# Altium schematic symbol library Conectors.SchLib: 124 symbols
Pins are listed as number, name and electrical type; pins without a type are passive.

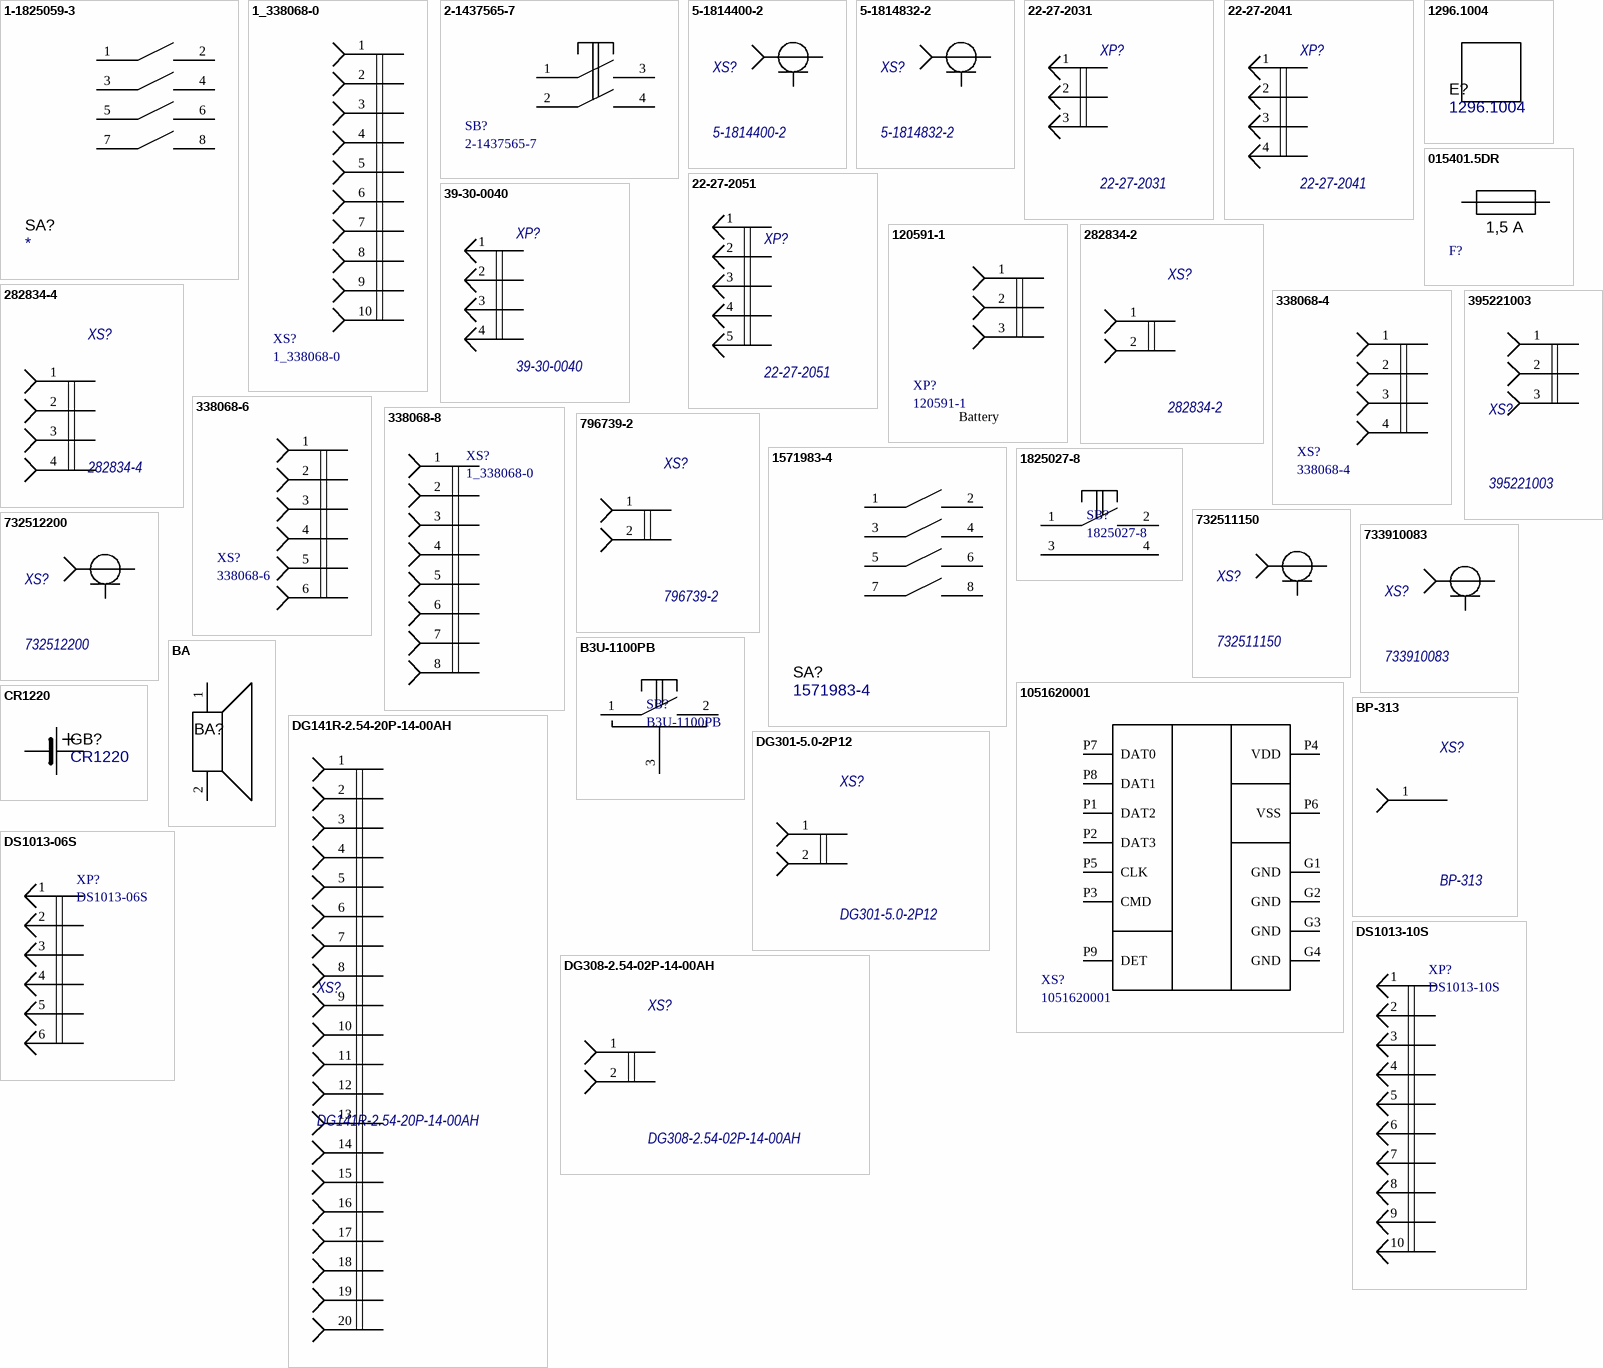
[diagram p0: symbols 1-1825059-3 to DS1013-10S]

## 1-1825059-3
designator SA?
SA; Part Number: 1-1825059-3; Manufacturer: TE Connectivity; Type: SA
footprint 1-1825059-3
pins: 1, 2, 3, 4, 5, 6, 7, 8

## 1_338068-0
designator XS?
Micro-MaTch; Through Hole - Solder; 10p; Manufacturer: TE Connectivity; Part Number: 1_338068-0; Type: Micro-MaTch
footprint 1_338068-0
pins: 1, 2, 3, 4, 5, 6, 7, 8, 9, 10

## 2-1437565-7
designator SB?
SB; Manufacturer: TE Connectivity; Part Number: 2-1437565-7; Type: SB
footprint SW4_FSM-4P44_TEC
pins: 1, 2, 3, 4

## 5-1814400-2
designator XS?
SMA; Manufacturer: TE Connectivity; Part Number: 5-1814400-2; ComponentLink1Description: Datasheet; Type: SMA
footprint 5-1814400-2
pins: 1, 2

## 5-1814832-2
designator XS?
SMA; Manufacturer: TE Connectivity; Part Number: 5-1814832-2; ComponentLink1Description: Datasheet; Type: SMA
footprint 5-1814832-2
pins: 1, 2

## 22-27-2031
designator XP?
Manufacturer: MOLEX; Part Number: 22-27-2031; Type: -; ComponentLink1Description: Datasheet
footprint 22-27-2031
pins: 1, 2, 3

## 22-27-2041
designator XP?
Manufacturer: MOLEX; Part Number: 22-27-2041; Type: -; ComponentLink1Description: Datasheet
footprint 22-27-2051
pins: 1, 2, 3, 4

## 22-27-2051
designator XP?
Manufacturer: MOLEX; Part Number: 22-27-2051; Type: -; ComponentLink1Description: Datasheet
footprint 22-27-2051
pins: 1, 2, 3, 4, 5

## 39-30-0040
designator XP?
Manufacturer: MOLEX; Part Number: 39-30-0040; Type: Mini-Fit; ComponentLink1Description: Datasheet
footprint 39-30-0040
pins: 1, 2, 3, 4

## 1296.1004
designator E?
Light Guides, 4 LED; Manufacturer: Mentor; Part Number: 1296.1004; Type: Light Guides
footprint 1296.1004

## 015401.5DR
designator F?  Current: 1,5 А  (hidden comment: 015401.5DR)
Fuse 1,5 А; Manufacturer: Littelfuse Inc; Part Number: 015401.5DR; Type: Fuse
footprint 0154Series_LTF
pins: 1, 2

## 120591-1
designator XP?
Battery; Manufacturer: TE Connectivity; Part Number: 120591-1; Type: Battery
footprint CONN3_120591-1_TEC
pins: 1, 2, 3

## 282834-2
designator XS?
282834-2, 2,54 мм; Manufacturer: TE; Part Number: 282834-2; Type: Terminal Blocks; ComponentLink1Description: Datasheet
footprint 282834-2
pins: 1, 2

## 282834-4
designator XS?
282834-4, 2,54 мм; Manufacturer: TE; Part Number: 282834-4; Type: Terminal Blocks; ComponentLink1Description: Datasheet
footprint 282834-4
pins: 1, 2, 3, 4

## 338068-4
designator XS?
Micro-MaTch; Through Hole - Solder; 4p; Manufacturer: TE Connectivity; Part Number: 338068-4; Type: Micro-MaTch
footprint 338068-4
pins: 1, 2, 3, 4

## 338068-6
designator XS?
Micro-MaTch; Through Hole - Solder; 6p; Manufacturer: TE Connectivity; Part Number: 338068-6; Type: Micro-MaTch
footprint 338068-6
pins: 1, 2, 3, 4, 5, 6

## 338068-8
designator XS?, comment 1_338068-0
Micro-MaTch; Through Hole - Solder; 8p; Manufacturer: TE Connectivity; Part Number: 338068-8; Type: Micro-MaTch
footprint 338068-8
pins: 1, 2, 3, 4, 5, 6, 7, 8

## 796739-2
designator XS?
Manufacturer: TE Connectivity; Part Number: 796739-2; Type: Terminal Blocks; ComponentLink1Description: Datasheet
footprint 796739-2
pins: 1, 2

## 1571983-4
designator SA?
SA; Manufacturer: TE Connectivity; Part Number: 1571983-4; Type: SA
footprint 1571983-4
pins: 1, 2, 3, 4, 5, 6, 7, 8

## 1825027-8
designator SB?
SB; Manufacturer: TE Connectivity; Part Number: 1825027-8; Type: SB
footprint SW2_1825027-C_TEC
pins: 1, 2, 3, 4

## 395221003
designator XS?
Manufacturer: MOLEX; Part Number: 395221003; Type: Terminal Blocks
footprint 395221003
pins: 1, 2, 3
2 alternate drawings of the same symbol

## 732511150
designator XS?
Manufacturer: MOLEX; Part Number: 732511150; ComponentLink1Description: Datasheet; Type: SMA
footprint 732511150
pins: 1, 2

## 732512200
designator XS?
SMA; Manufacturer: MOLEX; Part Number: 732512200; ComponentLink1Description: Datasheet; Type: SMA
footprint 732512200
pins: 1, 2

## 733910083
designator XS?
Manufacturer: MOLEX; Part Number: 733910083; ComponentLink1Description: Datasheet; Type: SMA
footprint 733910083
pins: 1, 2

## 1051620001
designator XS?
Micro SD; Manufacturer: Molex Connector Corporation; Part Number: 1051620001; Type: Micro SD
footprint 105162-0001_MOL
pins: G1 GND, G2 GND, G3 GND, G4 GND, P1 DAT2, P2 DAT3, P3 CMD, P4 VDD, P5 CLK, P6 VSS, P7 DAT0, P8 DAT1, P9 DET

## B3U-1100PB
designator SB?
SB; Manufacturer: OMRON; Part Number: B3U-1100PB; Type: SB
footprint B3U-1100P
pins: 1, 2, 3

## BA
designator BA?
footprint 3 INCH SPEAKER (Footprint not found)
pins: 1, 2

## BP-313
designator XS?
Part Number: BP-313; Type: BP; ComponentLink1Description: Datasheet; Manufacturer: -
footprint BP-313
pins: 1

## CR1220
designator GB?
footprint CR1220
pins: 1, 2

## DG141R-2.54-20P-14-00AH
designator XS?
Manufacturer: Degson; Part Number: DG141R-2.54-20P-14-00AH; Type: Terminal Blocks; ComponentLink1Description: Datasheet
footprint DG141R-2.54-20P-14-00AH
pins: 1, 2, 3, 4, 5, 6, 7, 8, 9, 10, 11, 12, 13, 14, 15, 16, 17, 18, 19, 20

## DG301-5.0-2P12
designator XS?
Terminal Block, 5мм, 2P; Manufacturer: KLS; Part Number: DG301-5.0-2P12; Type: Terminal Block; ComponentLink1Description: Datasheet
footprint DG301-5.0-2P12
pins: 1, 2

## DG308-2.54-02P-14-00AH
designator XS?
DG308-2.54-02P-14-00AH, 2,54 мм; Part Number: DG308-2.54-02P-14-00AH; Type: Terminal Blocks; ComponentLink1Description: Datasheet; Manufacturer: -
footprint 282834-2
pins: 1, 2

## DS1013-06S
designator XP?
IDC; Manufacturer: Connfly; Part Number: DS1013-06S; Type: IDC
footprint IDC-06MS
pins: 1, 2, 3, 4, 5, 6

## DS1013-10S
designator XP?
IDC; Manufacturer: Connfly; Part Number: DS1013-10S; Type: IDC
footprint IDC-10MS
pins: 1, 2, 3, 4, 5, 6, 7, 8, 9, 10

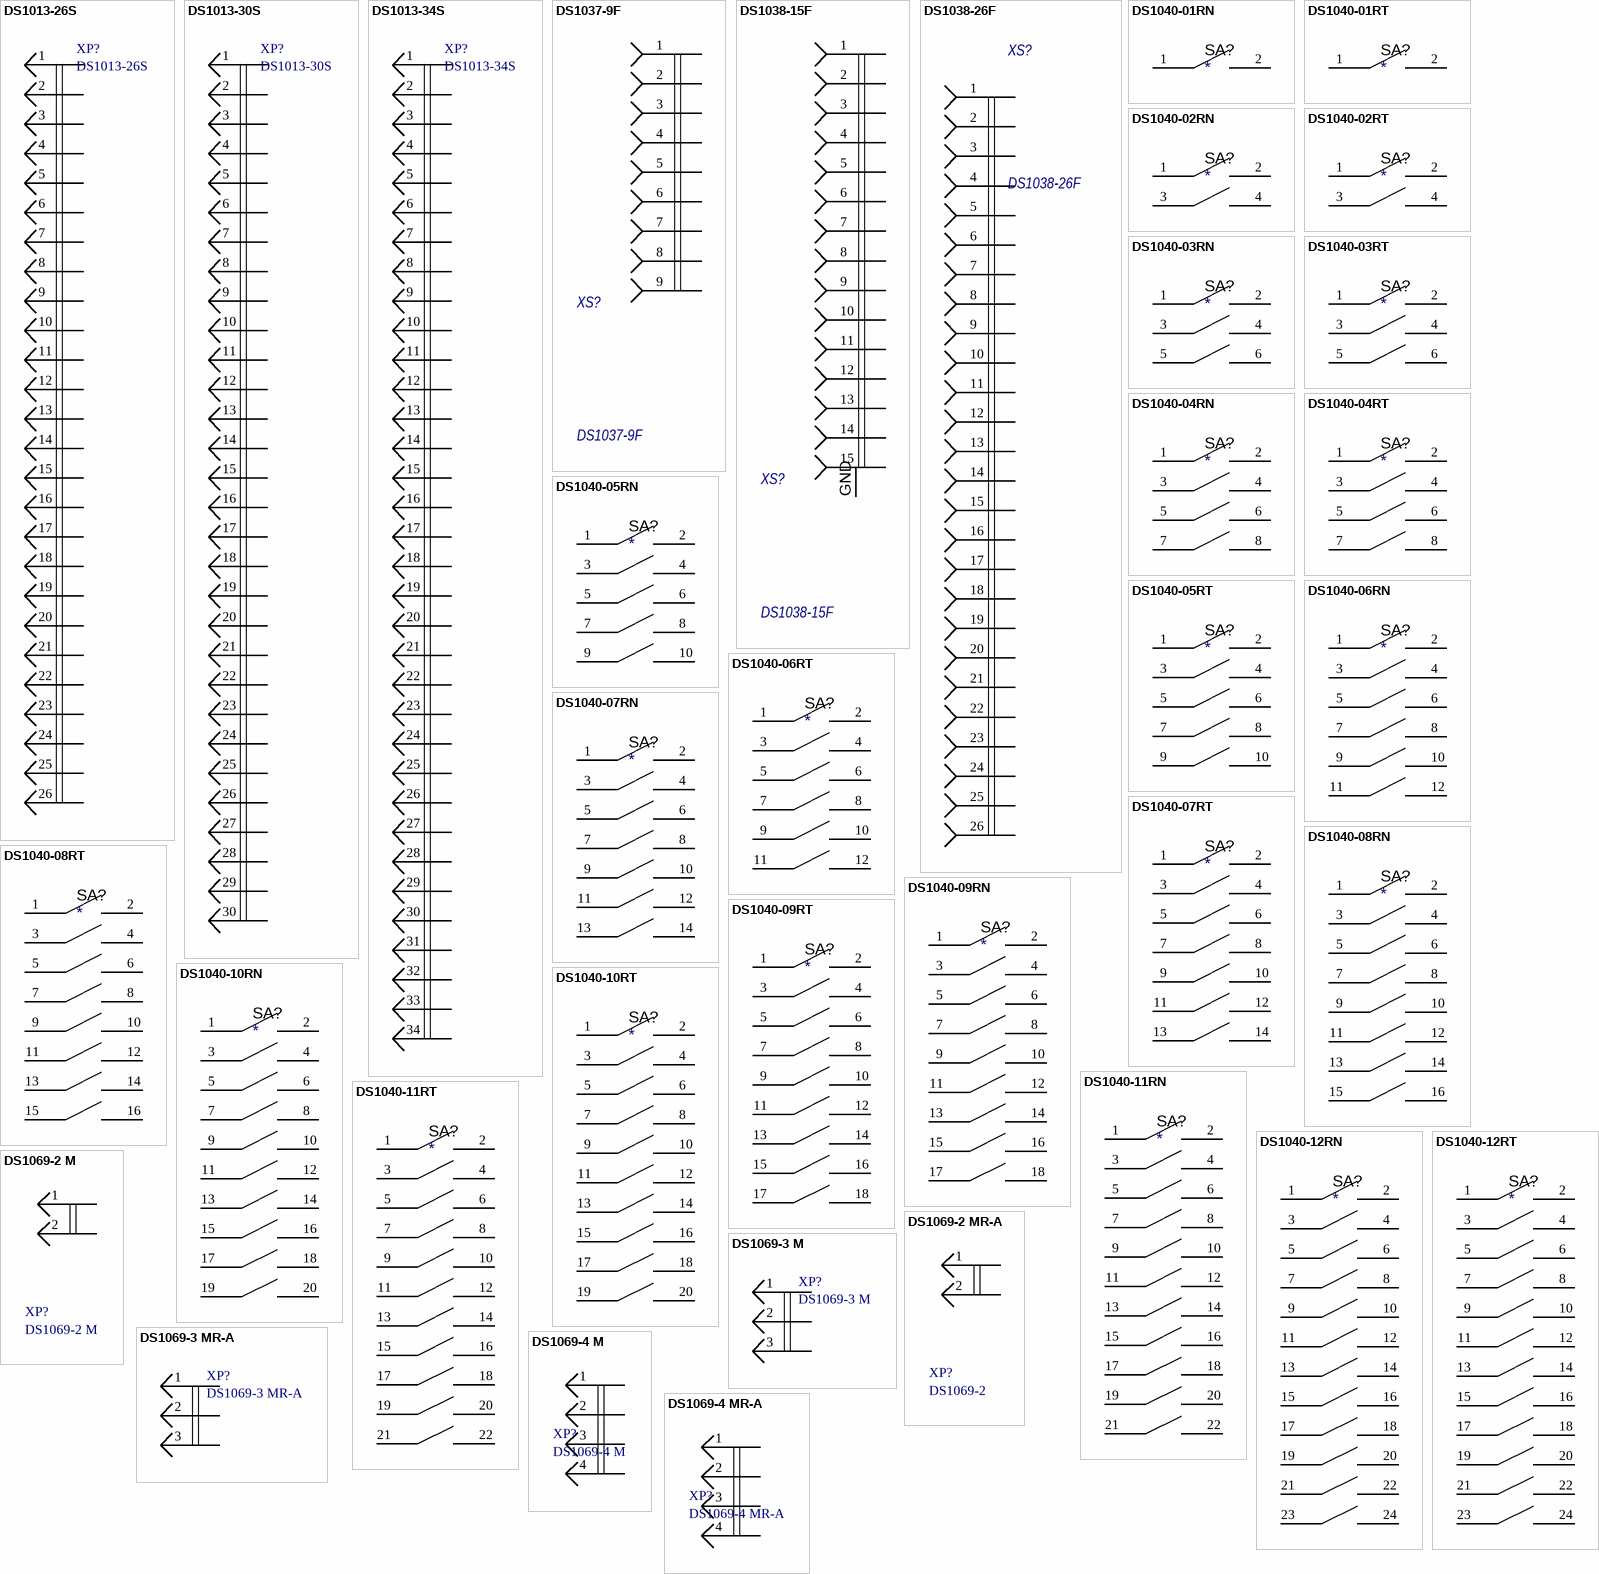
[diagram p1: symbols DS1013-26S to DS1069-4 MR-A]

## DS1013-26S
designator XP?
IDC; Manufacturer: Connfly; Part Number: DS1013-26S; Type: IDC
footprint IDC-26MS
pins: 1, 2, 3, 4, 5, 6, 7, 8, 9, 10, 11, 12, 13, 14, 15, 16, 17, 18, 19, 20, 21, 22, 23, 24, 25, 26

## DS1013-30S
designator XP?
IDC; Manufacturer: Connfly; Part Number: DS1013-30S; Type: IDC
footprint IDC-30MS
pins: 1, 2, 3, 4, 5, 6, 7, 8, 9, 10, 11, 12, 13, 14, 15, 16, 17, 18, 19, 20, 21, 22, 23, 24, 25, 26, 27, 28, 29, 30

## DS1013-34S
designator XP?
IDC; Manufacturer: Connfly; Part Number: DS1013-34S; Type: IDC
footprint IDC-34MS
pins: 1, 2, 3, 4, 5, 6, 7, 8, 9, 10, 11, 12, 13, 14, 15, 16, 17, 18, 19, 20, 21, 22, 23, 24, 25, 26, 27, 28, 29, 30, 31, 32, 33, 34

## DS1037-9F
designator XS?
Manufacturer: Connfly; Part Number: DS1037-9F; Type: D-SUB; ComponentLink1Description: Datasheet
footprint DS1037-9F
pins: 1, 2, 3, 4, 5, 6, 7, 8, 9

## DS1038-15F
designator XS?
Manufacturer: Connfly; Part Number: DS1038-15F; Type: D-SUB; ComponentLink1Description: Datasheet
footprint DS1038-15F
pins: 1, 2, 3, 4, 5, 6, 7, 8, 9, 10, 11, 12, 13, 14, 15, 16 GND

## DS1038-26F
designator XS?
Manufacturer: Connfly; Part Number: DS1038-26F; Type: D-SUB; ComponentLink1Description: Datasheet
footprint DS1038-26F (Footprint not found)
pins: 1, 2, 3, 4, 5, 6, 7, 8, 9, 10, 11, 12, 13, 14, 15, 16, 17, 18, 19, 20, 21, 22, 23, 24, 25, 26

## DS1040-01RN
designator SA?
SA; Part Number: DS1040-01RN; Manufacturer: CONNFLY; Type: SA
footprint DS1040-01RN (Footprint not found)
pins: 1, 2

## DS1040-01RT
designator SA?
SA; Part Number: DS1040-01RT; Manufacturer: CONNFLY; Type: SA
footprint DS1040-01RT
pins: 1, 2

## DS1040-02RN
designator SA?
SA; Part Number: DS1040-02RN; Manufacturer: CONNFLY; Type: SA
footprint DS1040-02RN (Footprint not found)
pins: 1, 2, 3, 4

## DS1040-02RT
designator SA?
SA; Part Number: DS1040-02RT; Manufacturer: CONNFLY; Type: SA
footprint DS1040-02RT
pins: 1, 2, 3, 4

## DS1040-03RN
designator SA?
SA; Part Number: DS1040-03RN; Manufacturer: CONNFLY; Type: SA
footprint DS1040-03RN (Footprint not found)
pins: 1, 2, 3, 4, 5, 6

## DS1040-03RT
designator SA?
SA; Part Number: DS1040-03RT; Manufacturer: CONNFLY; Type: SA
footprint DS1040-03RT
pins: 1, 2, 3, 4, 5, 6

## DS1040-04RN
designator SA?
SA; Part Number: DS1040-04RN; Manufacturer: CONNFLY; Type: SA
footprint DS1040-04RN (Footprint not found)
pins: 1, 2, 3, 4, 5, 6, 7, 8

## DS1040-04RT
designator SA?
SA; Part Number: DS1040-04RT; Manufacturer: CONNFLY; Type: SA
footprint DS1040-04RT
pins: 1, 2, 3, 4, 5, 6, 7, 8

## DS1040-05RN
designator SA?
SA; Part Number: DS1040-05RN; Manufacturer: CONNFLY; Type: SA
footprint DS1040-05RN (Footprint not found)
pins: 1, 2, 3, 4, 5, 6, 7, 8, 9, 10

## DS1040-05RT
designator SA?
SA; Part Number: DS1040-05RT; Manufacturer: CONNFLY; Type: SA
footprint DS1040-05RT
pins: 1, 2, 3, 4, 5, 6, 7, 8, 9, 10

## DS1040-06RN
designator SA?
SA; Part Number: DS1040-06RN; Manufacturer: CONNFLY; Type: SA
footprint DS1040-06RN (Footprint not found)
pins: 1, 2, 3, 4, 5, 6, 7, 8, 9, 10, 11, 12

## DS1040-06RT
designator SA?
SA; Part Number: DS1040-06RT; Manufacturer: CONNFLY; Type: SA
footprint DS1040-06RT
pins: 1, 2, 3, 4, 5, 6, 7, 8, 9, 10, 11, 12

## DS1040-07RN
designator SA?
SA; Part Number: DS1040-07RN; Manufacturer: CONNFLY; Type: SA
footprint DS1040-07RN (Footprint not found)
pins: 1, 2, 3, 4, 5, 6, 7, 8, 9, 10, 11, 12, 13, 14

## DS1040-07RT
designator SA?
SA; Part Number: DS1040-07RT; Manufacturer: CONNFLY; Type: SA
footprint DS1040-07RT
pins: 1, 2, 3, 4, 5, 6, 7, 8, 9, 10, 11, 12, 13, 14

## DS1040-08RN
designator SA?
SA; Part Number: DS1040-08RN; Manufacturer: CONNFLY; Type: SA
footprint DS1040-08RN (Footprint not found)
pins: 1, 2, 3, 4, 5, 6, 7, 8, 9, 10, 11, 12, 13, 14, 15, 16

## DS1040-08RT
designator SA?
SA; Part Number: DS1040-08RT; Manufacturer: CONNFLY; Type: SA
footprint DS1040-08RT
pins: 1, 2, 3, 4, 5, 6, 7, 8, 9, 10, 11, 12, 13, 14, 15, 16

## DS1040-09RN
designator SA?
SA; Part Number: DS1040-09RN; Manufacturer: CONNFLY; Type: SA
footprint DS1040-09RN (Footprint not found)
pins: 1, 2, 3, 4, 5, 6, 7, 8, 9, 10, 11, 12, 13, 14, 15, 16, 17, 18

## DS1040-09RT
designator SA?
SA; Part Number: DS1040-09RT; Manufacturer: CONNFLY; Type: SA
footprint DS1040-09RT
pins: 1, 2, 3, 4, 5, 6, 7, 8, 9, 10, 11, 12, 13, 14, 15, 16, 17, 18

## DS1040-10RN
designator SA?
SA; Part Number: DS1040-10RN; Manufacturer: CONNFLY; Type: SA
footprint DS1040-10RN (Footprint not found)
pins: 1, 2, 3, 4, 5, 6, 7, 8, 9, 10, 11, 12, 13, 14, 15, 16, 17, 18, 19, 20

## DS1040-10RT
designator SA?
SA; Part Number: DS1040-10RT; Manufacturer: CONNFLY; Type: SA
footprint DS1040-10RT
pins: 1, 2, 3, 4, 5, 6, 7, 8, 9, 10, 11, 12, 13, 14, 15, 16, 17, 18, 19, 20

## DS1040-11RN
designator SA?
SA; Part Number: DS1040-11RN; Manufacturer: CONNFLY; Type: SA
footprint DS1040-11RN (Footprint not found)
pins: 1, 2, 3, 4, 5, 6, 7, 8, 9, 10, 11, 12, 13, 14, 15, 16, 17, 18, 19, 20, 21, 22

## DS1040-11RT
designator SA?
SA; Part Number: DS1040-11RT; Manufacturer: CONNFLY; Type: SA
footprint DS1040-11RT
pins: 1, 2, 3, 4, 5, 6, 7, 8, 9, 10, 11, 12, 13, 14, 15, 16, 17, 18, 19, 20, 21, 22

## DS1040-12RN
designator SA?
SA; Part Number: DS1040-12RN; Manufacturer: CONNFLY; Type: SA
footprint DS1040-12RN (Footprint not found)
pins: 1, 2, 3, 4, 5, 6, 7, 8, 9, 10, 11, 12, 13, 14, 15, 16, 17, 18, 19, 20, 21, 22, 23, 24

## DS1040-12RT
designator SA?
SA; Part Number: DS1040-12RT; Manufacturer: CONNFLY; Type: SA
footprint DS1040-12RT
pins: 1, 2, 3, 4, 5, 6, 7, 8, 9, 10, 11, 12, 13, 14, 15, 16, 17, 18, 19, 20, 21, 22, 23, 24

## DS1069-2 M
designator XP?
Manufacturer: Connfly; Part Number: DS1069-2 M; Type: XH
footprint DS1069-2 M
pins: 1, 2

## DS1069-2 MR-A
designator XP?, comment DS1069-2
Manufacturer: Connfly; Part Number: DS1069-2 MR-A; Type: XH
footprint DS1069-2 MR-A
pins: 1, 2

## DS1069-3 M
designator XP?
Manufacturer: Connfly; Part Number: DS1069-3 M; Type: XH
footprint DS1069-3 M
pins: 1, 2, 3

## DS1069-3 MR-A
designator XP?
Manufacturer: Connfly; Part Number: DS1069-3 MR-A; Type: XH
footprint DS1069-3 MR-A
pins: 1, 2, 3

## DS1069-4 M
designator XP?
Manufacturer: Connfly; Part Number: DS1069-4 M; Type: XH
footprint DS1069-4 M
pins: 1, 2, 3, 4

## DS1069-4 MR-A
designator XP?
Manufacturer: Connfly; Part Number: DS1069-4 MR-A; Type: XH
footprint DS1069-4 MR-A (Footprint not found)
pins: 1, 2, 3, 4

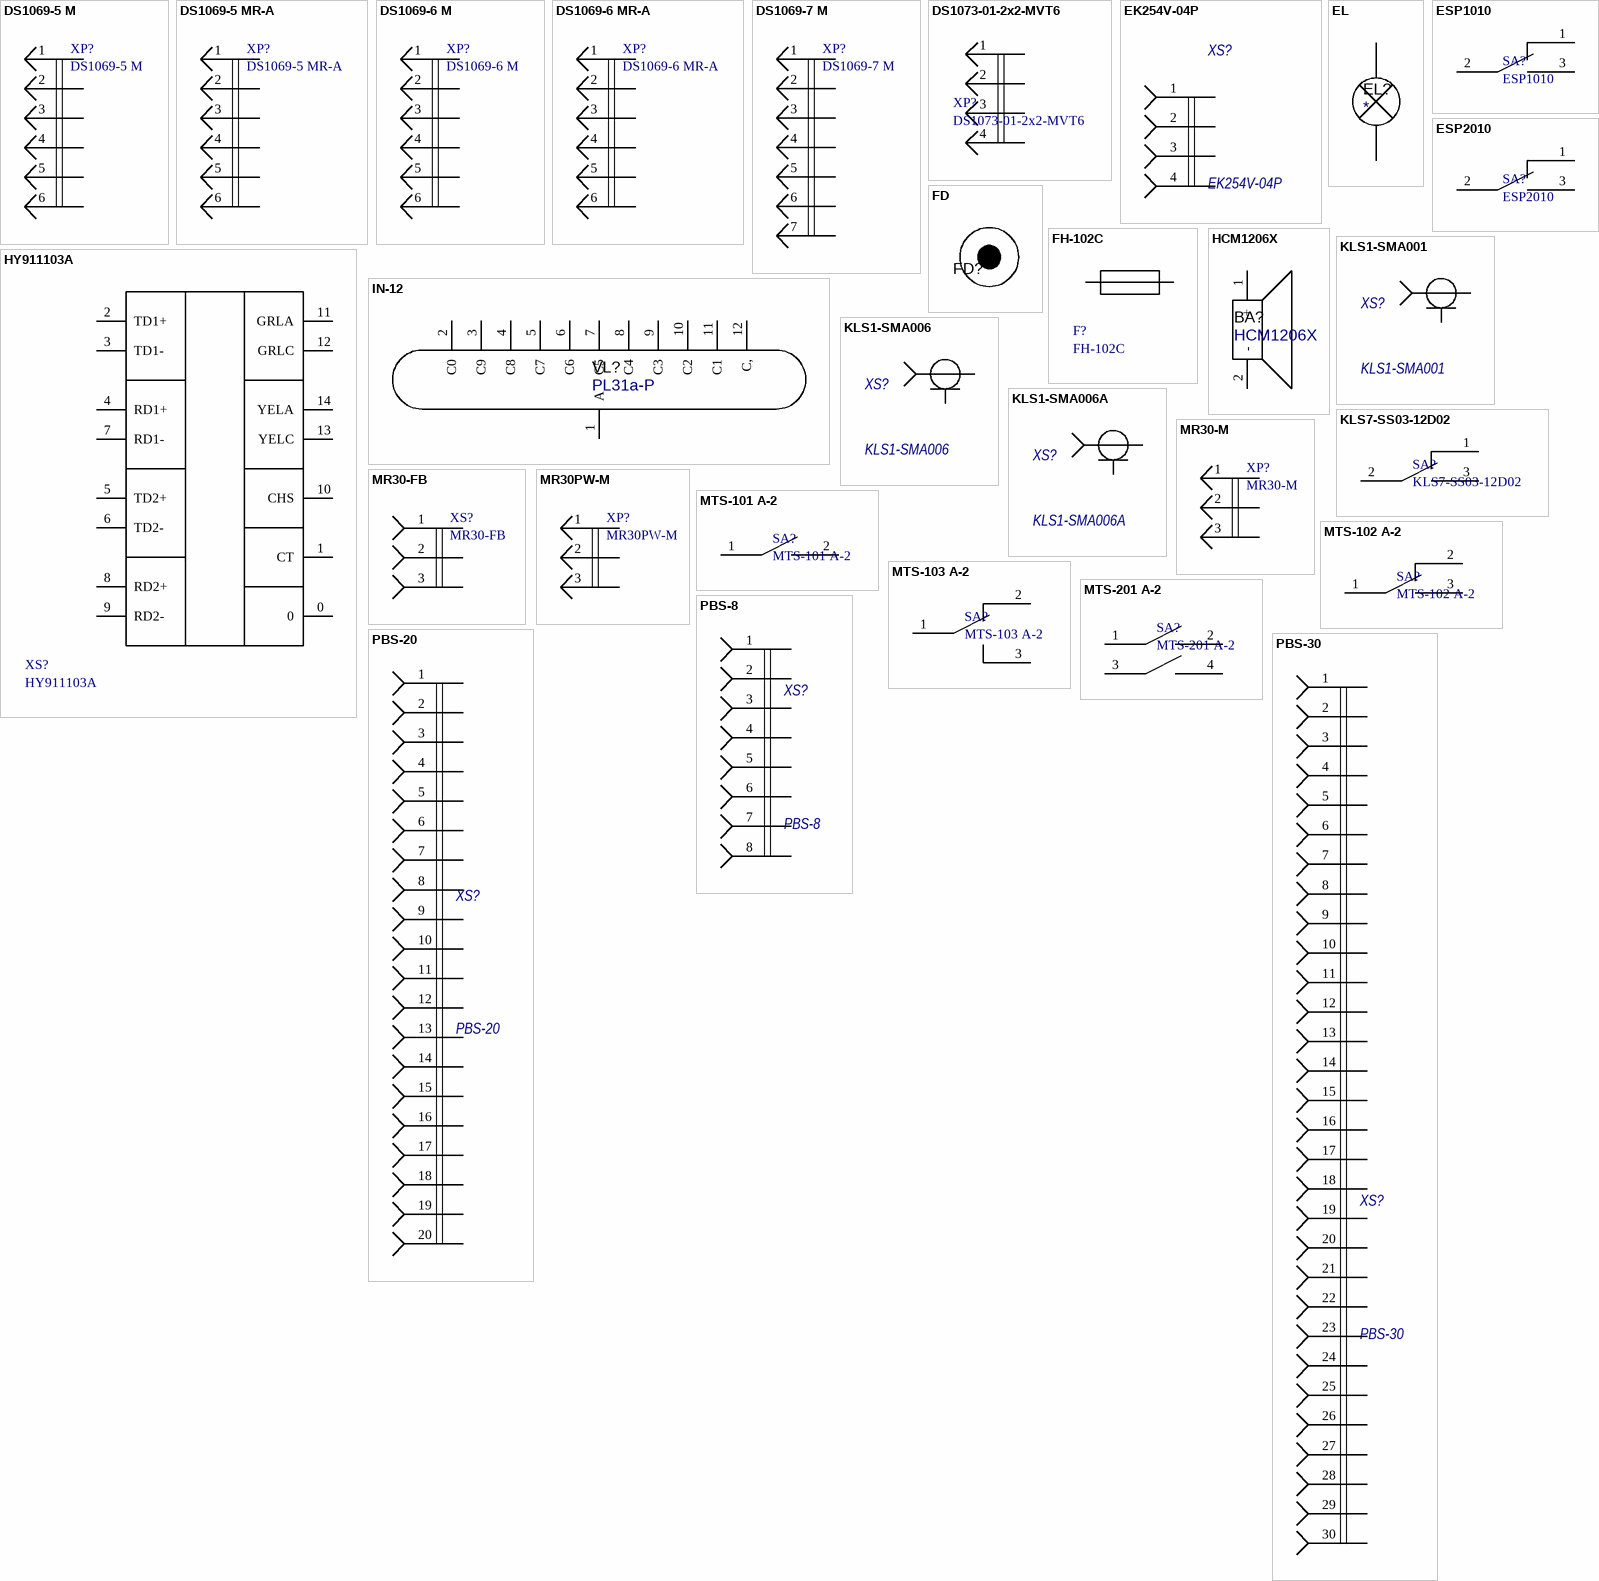
[diagram p2: symbols DS1069-5 M to PBS-30]

## DS1069-5 M
designator XP?
Manufacturer: Connfly; Part Number: DS1069-5 M; Type: XH
footprint DS1069-5 M
pins: 1, 2, 3, 4, 5, 6

## DS1069-5 MR-A
designator XP?
Manufacturer: Connfly; Part Number: DS1069-5 MR-A; Type: XH
footprint DS1069-5 MR-A
pins: 1, 2, 3, 4, 5, 6

## DS1069-6 M
designator XP?
Manufacturer: Connfly; Part Number: DS1069-6 M; Type: XH
footprint DS1069-6 M
pins: 1, 2, 3, 4, 5, 6

## DS1069-6 MR-A
designator XP?
Manufacturer: Connfly; Part Number: DS1069-6 MR-A; Type: XH
footprint DS1069-6 MR-A
pins: 1, 2, 3, 4, 5, 6

## DS1069-7 M
designator XP?
Manufacturer: Connfly; Part Number: DS1069-7 M; Type: XH
footprint DS1069-7 M
pins: 1, 2, 3, 4, 5, 6, 7

## DS1073-01-2x2-MVT6
designator XP?
Manufacturer: Connfly; Part Number: DS1073-01-2x2-MVT6
footprint DS1073-01-2x2-MVT6
pins: 1, 2, 3, 4

## EK254V-04P
designator XS?
EK254V-04P, 2,54 мм; Manufacturer: Dinkle; Part Number: EK254V-04P; Type: Terminal Blocks; ComponentLink1Description: Datasheet
footprint 282834-4
pins: 1, 2, 3, 4

## EL
designator EL?
pins: 2, 4

## ESP1010
designator SA?
SA; Manufacturer: ECE; Part Number: ESP1010; Type: SA
footprint ESP1010
pins: 1, 2, 3  

## ESP2010
designator SA?
SA; Manufacturer: ECE; Part Number: ESP2010; Type: SA
footprint ESP2010
pins: 1, 2, 3  

## FD
designator FD?  (value not drawn)
footprint FD

## FH-102C
designator F?
Fuse Holder 5,2x20; Manufacturer: Dragon City; Part Number: FH-102C; Type: Fuse
footprint FH-102C
pins: 1, 2

## HCM1206X
designator BA?
Part Number: HCM1206X; Type: Sound Generators
footprint HCM1206X (Footprint not found)
pins: 1 +, 2 -

## HY911103A
designator XS?
RG45; Manufacturer: HanRun; Part Number: HY911103A; Type: RG45
footprint HY911103A_HAN
pins: 0, 1 CT, 2 TD1+, 3 TD1-, 4 RD1+, 5 TD2+, 6 TD2-, 7 RD1-, 8 RD2+, 9 RD2-, 10 CHS, 11 GRLA, 12 GRLC, 13 YELC, 14 YELA

## IN-12
designator VL?, comment PL31a-P
Part Number: ИН-12; Manufacturer: СССР
footprint PL31a-P (Footprint not found)
pins: 1 A, 2 C0, 3 C9, 4 C8, 5 C7, 6 C6, 7 C5, 8 C4, 9 C3, 10 C2, 11 C1, 12 C,

## KLS1-SMA001
designator XS?
SMA; Manufacturer: KLS; Part Number: KLS1-SMA001; ComponentLink1Description: Datasheet; Type: SMA
footprint 5-1814832-2
pins: 1, 2

## KLS1-SMA006
designator XS?
Manufacturer: KLS; Part Number: KLS1-SMA006; ComponentLink1Description: Datasheet; Type: SMA
footprint KLS1-SMA006
pins: 1, 2

## KLS1-SMA006A
designator XS?
SMA; Manufacturer: KLS; Part Number: KLS1-SMA006A; ComponentLink1Description: Datasheet; Type: SMA
footprint 732512200
pins: 1, 2

## KLS7-SS03-12D02
designator SA?
SA; Manufacturer: KLS; Part Number: KLS7-SS03-12D02; Type: SA
footprint KLS7-SS03-12D02 (Footprint not found)
pins: 1, 2, 3  

## MR30-FB
designator XS?
Manufacturer: AMASS; Part Number: MR30-FB; Type: XT
footprint MR30-FB
pins: 1, 2, 3

## MR30-M
designator XP?
Manufacturer: AMASS; Part Number: MR30-M; Type: XT
footprint MR30-M
pins: 1, 2, 3

## MR30PW-M
designator XP?
Manufacturer: AMASS; Part Number: MR30PW-M; Type: XT
footprint MR30PW-M
pins: 1, 2, 3

## MTS-101 A-2
designator SA?
SA; Manufacturer: Jietong Switch; Part Number: MTS-101 A-2; Type: SA
footprint MTS-101
pins: 1, 2

## MTS-102 A-2
designator SA?
SA; Manufacturer: Jietong Switch; Part Number: MTS-102 A-2; Type: SA
footprint MTS-1 (Footprint not found)
pins: 1, 2, 3  

## MTS-103 A-2
designator SA?
SA; Manufacturer: Jietong Switch; Part Number: MTS-103 A-2; Type: SA
footprint MTS-1
pins: 1, 2, 3  

## MTS-201 A-2
designator SA?
SA; Manufacturer: Jietong Switch; Part Number: MTS-201 A-2; Type: SA
footprint MTS-201
pins: 1, 2, 3, 4

## PBS-8
designator XS?
Part Number: PBS-8; Type: PBS; ComponentLink1Description: Datasheet; Manufacturer: -
footprint PBS-8
pins: 1, 2, 3, 4, 5, 6, 7, 8

## PBS-20
designator XS?
Part Number: PBS-20; Type: PBS; ComponentLink1Description: Datasheet; Manufacturer: -
footprint PBS-20
pins: 1, 2, 3, 4, 5, 6, 7, 8, 9, 10, 11, 12, 13, 14, 15, 16, 17, 18, 19, 20

## PBS-30
designator XS?
Part Number: PBS-30; Type: PBS; ComponentLink1Description: Datasheet; Manufacturer: -
footprint PBS-30
pins: 1, 2, 3, 4, 5, 6, 7, 8, 9, 10, 11, 12, 13, 14, 15, 16, 17, 18, 19, 20, 21, 22, 23, 24, 25, 26, 27, 28, 29, 30

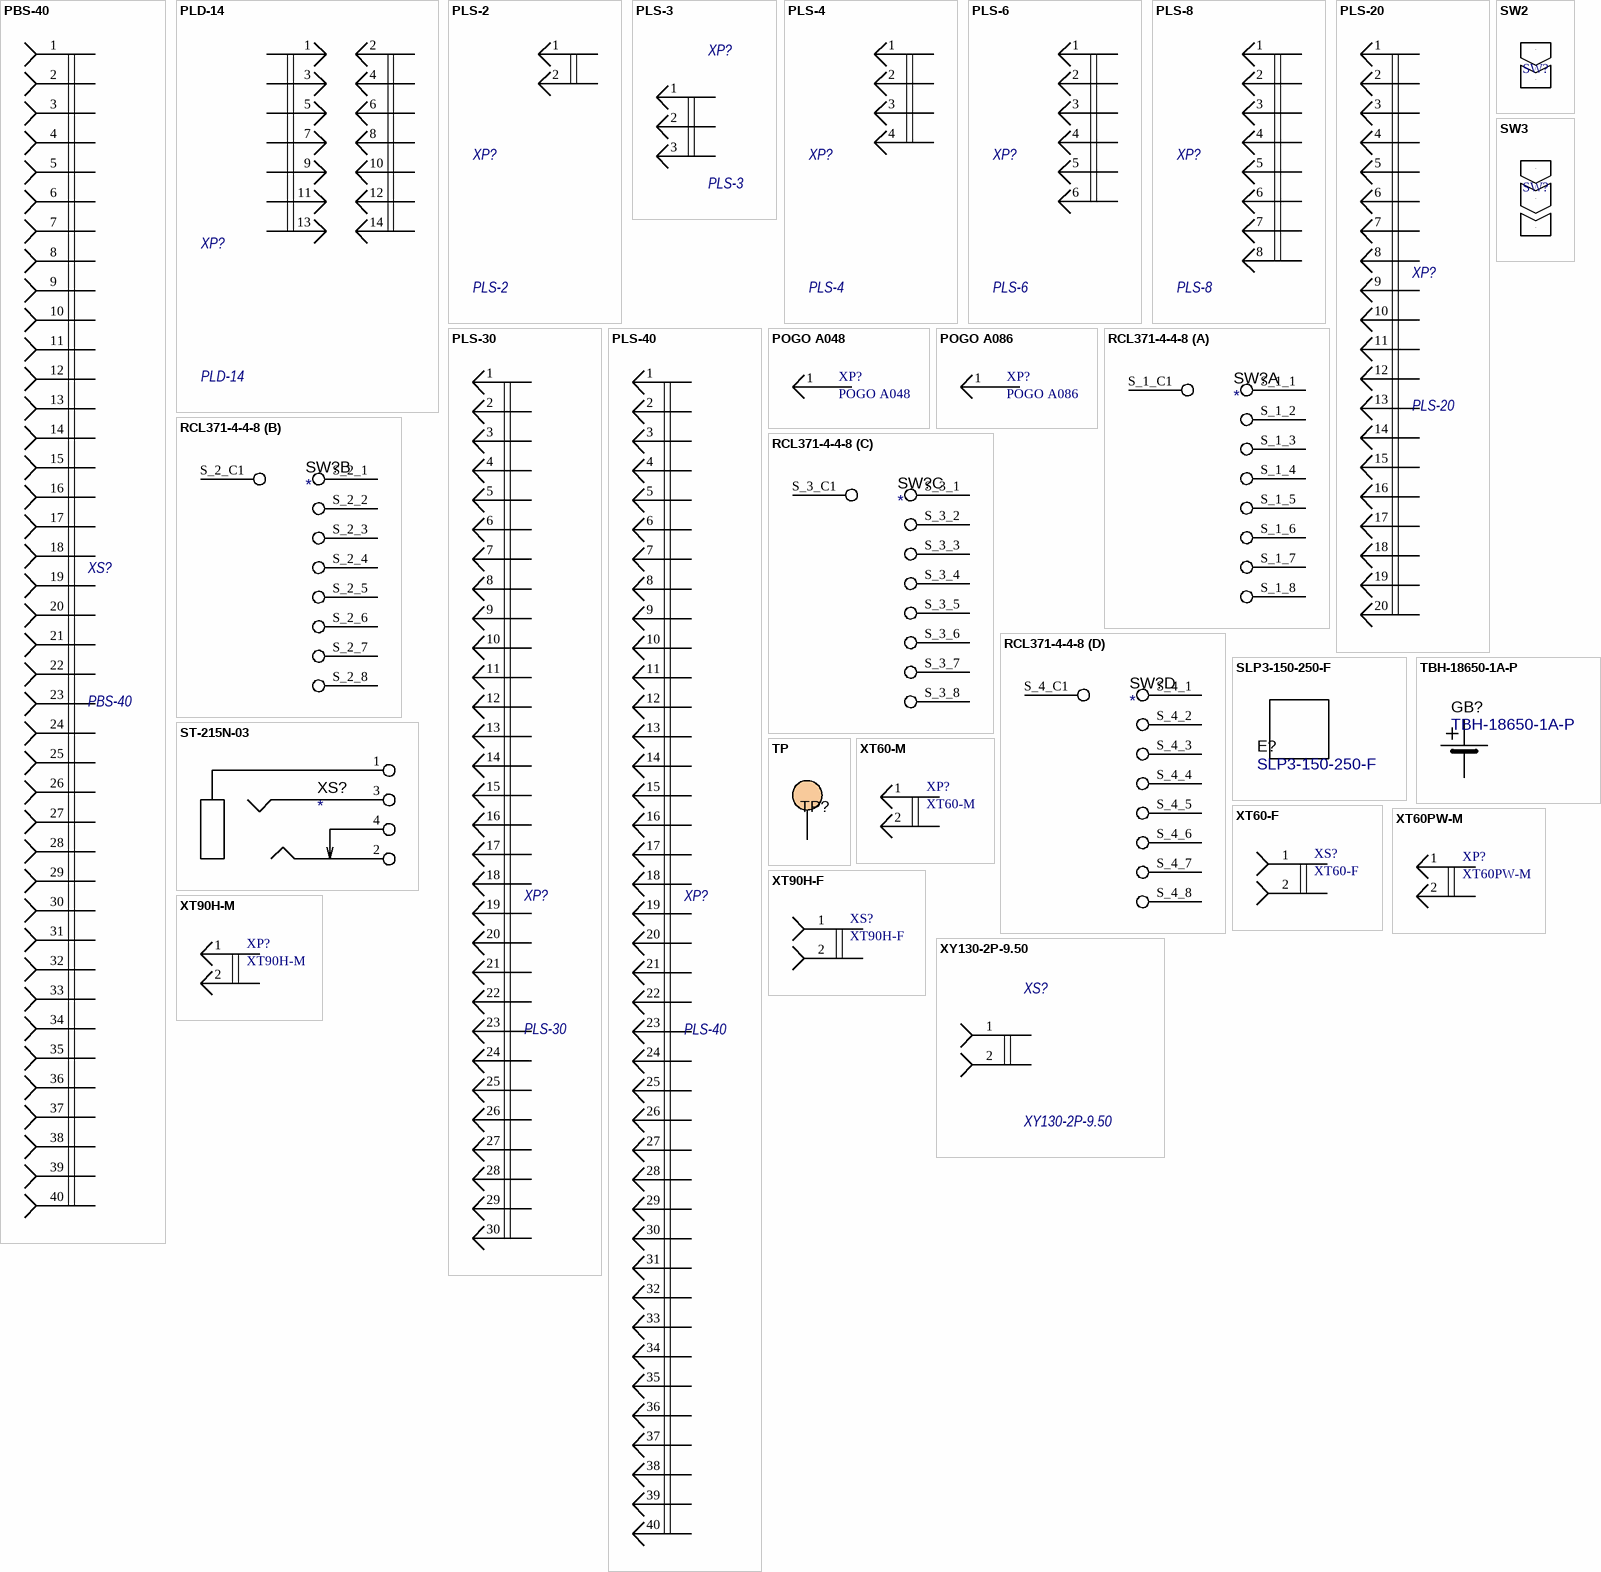
[diagram p3: symbols PBS-40 to XY130-2P-9.50]

## PBS-40
designator XS?
Part Number: PBS-40; Type: PBS; ComponentLink1Description: Datasheet; Manufacturer: -
footprint PBS-40
pins: 1, 2, 3, 4, 5, 6, 7, 8, 9, 10, 11, 12, 13, 14, 15, 16, 17, 18, 19, 20, 21, 22, 23, 24, 25, 26, 27, 28, 29, 30, 31, 32, 33, 34, 35, 36, 37, 38, 39, 40

## PLD-14
designator XP?
Part Number: PLD-14; Type: PLD; ComponentLink1Description: Datasheet; Manufacturer: -
footprint PLD-14 (Footprint not found)
pins: 1, 2, 3, 4, 5, 6, 7, 8, 9, 10, 11, 12, 13, 14

## PLS-2
designator XP?
Part Number: PLS-2; Type: PLS; ComponentLink1Description: Datasheet; Manufacturer: -
footprint PLS-2 (Footprint not found)
pins: 1, 2

## PLS-3
designator XP?
Part Number: PLS-3; Type: PLS; ComponentLink1Description: Datasheet; Manufacturer: -
footprint PLS-3 (Footprint not found)
pins: 1, 2, 3

## PLS-4
designator XP?
Part Number: PLS-4; Type: PLS; ComponentLink1Description: Datasheet; Manufacturer: -
footprint PLS-4
pins: 1, 2, 3, 4

## PLS-6
designator XP?
Part Number: PLS-6; Type: PLS; ComponentLink1Description: Datasheet; Manufacturer: -
footprint PLS-6
pins: 1, 2, 3, 4, 5, 6

## PLS-8
designator XP?
Part Number: PLS-8; Type: PLS; ComponentLink1Description: Datasheet; Manufacturer: -
footprint PLS-8
pins: 1, 2, 3, 4, 5, 6, 7, 8

## PLS-20
designator XP?
Part Number: PLS-20; Type: PLS; ComponentLink1Description: Datasheet; Manufacturer: -
footprint PLS-20
pins: 1, 2, 3, 4, 5, 6, 7, 8, 9, 10, 11, 12, 13, 14, 15, 16, 17, 18, 19, 20

## PLS-30
designator XP?
Part Number: PLS-30; Type: PLS; ComponentLink1Description: Datasheet; Manufacturer: -
footprint PLS-30
pins: 1, 2, 3, 4, 5, 6, 7, 8, 9, 10, 11, 12, 13, 14, 15, 16, 17, 18, 19, 20, 21, 22, 23, 24, 25, 26, 27, 28, 29, 30

## PLS-40
designator XP?
Part Number: PLS-40; Type: PLS; ComponentLink1Description: Datasheet; Manufacturer: -
footprint PLS-40
pins: 1, 2, 3, 4, 5, 6, 7, 8, 9, 10, 11, 12, 13, 14, 15, 16, 17, 18, 19, 20, 21, 22, 23, 24, 25, 26, 27, 28, 29, 30, 31, 32, 33, 34, 35, 36, 37, 38, 39, 40

## POGO A048
designator XP?
Manufacturer: -; Part Number: POGO A048
footprint POGO_A048
pins: 1

## POGO A086
designator XP?
Manufacturer: -; Part Number: POGO A086
footprint POGO_A086
pins: 1

## RCL371-4-4-8
designator SW?
Part Number: RCL371-4-4-8; Manufacturer: -
footprint RCL371
part A pins: S_1_1, S_1_2, S_1_3, S_1_4, S_1_5, S_1_6, S_1_7, S_1_8, S_1_С1
part B pins: S_2_1, S_2_2, S_2_3, S_2_4, S_2_5, S_2_6, S_2_7, S_2_8, S_2_С1
part C pins: S_3_1, S_3_2, S_3_3, S_3_4, S_3_5, S_3_6, S_3_7, S_3_8, S_3_С1
part D pins: S_4_1, S_4_2, S_4_3, S_4_4, S_4_5, S_4_6, S_4_7, S_4_8, S_4_С1

## SLP3-150-250-F
designator E?
Light Guides, 1LED; Manufacturer: Bivar; Part Number: SLP3-150-250-F; Type: Light Guides
footprint SLP3-150-250-F

## ST-215N-03
designator XS?
Stereo jack 3.5; Part Number: ST-215N-03; Manufacturer: Dragon City
footprint ST-215N-03 (Footprint not found)
pins: 1, 2, 3, 4

## SW2
designator SW?  (value not drawn)
footprint SW2
pins: 1, 2

## SW3
designator SW?  (value not drawn)
footprint SW3
pins: 1, 2, 3

## TBH-18650-1A-P
designator GB?
Manufacturer: KLS; Part Number: TBH-18650-1A-P
footprint TBH-18650-1A-P
pins: 1, 2

## TP
designator TP?  (value not drawn)
Test point
footprint TP
pins: 1

## XT60-F
designator XS?
Manufacturer: AMASS; Part Number: XT60-F; Type: XT
footprint XT60-F
pins: 1, 2

## XT60-M
designator XP?
Manufacturer: AMASS; Part Number: XT60-M; Type: XT
footprint XT60-M
pins: 1, 2

## XT60PW-M
designator XP?
Manufacturer: AMASS; Part Number: XT60PW-M; Type: XT
footprint XT60PW-M
pins: 1, 2

## XT90H-F
designator XS?
Manufacturer: AMASS; Part Number: XT90H-F; Type: XT
footprint XT90H-F
pins: 1, 2

## XT90H-M
designator XP?
Manufacturer: AMASS; Part Number: XT90H-M; Type: XT
footprint XT90H-M (Footprint not found)
pins: 1, 2

## XY130-2P-9.50
designator XS?
Part Number: XY130-2P-9.50; Type: Terminal Blocks; ComponentLink1Description: Datasheet; Manufacturer: -
footprint 796739-2
pins: 1, 2